# Altium schematic symbol library Sumo_2016.SCHLIB: 15 symbols
Pins are listed as number, name and electrical type; pins without a type are passive.

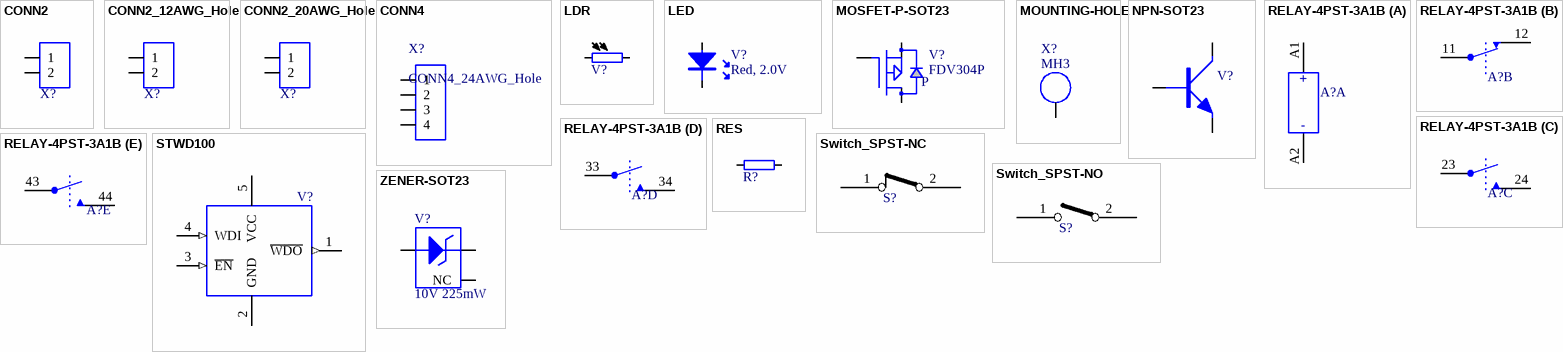
[diagram p0: symbols CONN2 to ZENER-SOT23]

## CONN2
designator X?, comment Molex Minifit  (value not drawn)  (no BOM)
Connector 2 pin general; Part Field 1: CONN2 2x1 4.20mm Minifit Jr Pin Header Vert RoHS; IPN: 5888; Symbol: CONN2; EndOfLife: Active EOL:Sep 2023; Characteristics: Ur=600Vac Imax=13.0A  -40..105ºC Tin UL File: E29179; Lead_Process_Compatible: Yes; SubmittedBy: ZCLH; DeviceRank: 2; Part Field 2: Molex 39-28-1023; ComponentLink1Description: 039281023_sd.pdf; ComponentLink2Description: 0039281023_rohs.pdf; ComponentLink1URL: http://ecad.vsl.com.au/apps/BomGen/Data/rel/datasheets/new_parts/039281023_sd.pdf; ComponentLink2URL: http://ecad.vsl.com.au/apps/BomGen/Data/rel/rohs_compliance/new_certificates/0039281023_rohs.pdf; Altium_Comment_Old: CONN2 2x1 4.20mm Minifit Jr Pin Header Vert RoHS; Altium_Comment: Molex Minifit; Manufacturer: Molex; PartNumber: 39-28-1023; LastChanged: 27/09/12 10:20:42; Supplier1: Element14; Supplier1_PartNumber: 9732080; Supplier2: RS; Supplier2_PartNumber: 484-1883; IPN_Search: 5888; OrderNumber: 39-28-1023; PartType: PCB; Price: 0.57; CheckedBy: FXT; Price_100: M$0.356; Price_1000: M$0.320; Price_5000: M$0.250
footprint HDR-4.2-1x2-MINIFIT
pins: 1, 2

## CONN2_12AWG_Hole
designator X?  (value not drawn)  (no BOM)
Symbol: CONN2; Lead_Process_Compatible: Yes; SubmittedBy: ZMZE; DeviceRank: 2; IPN: -; Part Field 1: CONN2_12AWG_Hole; Part Field 2: -; Altium_Comment_Old: CONN2_12AWG_Hole; Altium_Comment: CONN2_12AWG_Hole; Manufacturer: -; PartNumber: -; LastChanged: 27/09/12 10:20:42; Supplier1: -; Supplier1_PartNumber: -; Supplier2: -; Supplier2_PartNumber: -; IPN_Search: -; Characteristics: -; OrderNumber: -; PartType: PCB; Price: -; CheckedBy: -; Price_100: -; Price_1000: -; Price_5000: -
footprint 2_Wire_12AWG
pins: 1, 2

## CONN2_20AWG_Hole
designator X?  (value not drawn)  (no BOM)
Symbol: CONN2; Lead_Process_Compatible: Yes; SubmittedBy: ZMZE; DeviceRank: 2; IPN: -; Part Field 1: CONN2_20AWG_Hole; Part Field 2: -; Altium_Comment_Old: CONN2_20AWG_Hole; Altium_Comment: CONN2_20AWG_Hole; Manufacturer: -; PartNumber: -; LastChanged: 27/09/12 10:20:42; Supplier1: -; Supplier1_PartNumber: -; Supplier2: -; Supplier2_PartNumber: -; IPN_Search: -; Characteristics: -; OrderNumber: -; PartType: PCB; Price: -; CheckedBy: -; Price_100: -; Price_1000: -; Price_5000: -
footprint 2_Wire_20AWG
pins: 1, 2

## CONN4
designator X?, comment CONN4_24AWG_Hole
Altium_Comment: CONN4_24AWG_Hole
footprint 4_Wire_0.1"
pins: 1, 2, 3, 4

## LDR
designator V?, comment LDR 14k@24LUX, 670k@dark  (value not drawn)
LDR; Part Field 1: LDR Photocell, 14k@24LUX, 670k@dark; Manufacturer: Luna Optoelectronics; IPN: 9828; Characteristics: 550nm, 100vPk, -65...+75C, 50mW max,; Lead_Process_Compatible: Yes; SubmittedBy: zmze; DeviceRank: 2; Part Field 2: Luna Optoelectronics NSL-5112; ComponentLink1Description: Luna Optoelectronics_NSL-5112_NSL-5112.pdf; ComponentLink2Description: Non_compliant; ComponentLink1URL: http://ecad.vsl.com.au/apps/BomGen/Data/rel/datasheets/Luna Optoelectronics/Luna Optoelectronics_NSL-5112_NSL-5112.pdf; Altium_Comment_Old: LDR Photocell, 14k@24LUX, 670k@dark; Altium_Comment: LDR 14k@24LUX, 670k@dark; Symbol: LDR; PartNumber: NSL-5112; LastChanged: 27/05/16 08:14:08; Supplier1: Digikey; Supplier1_PartNumber: NSL-5112-ND; IPN_Search: 9828; OrderNumber: NSL-5112; PartType: PCB
footprint LDR_NSL-5112
pins: 1, 2

## LED
designator V?, comment Red, 2.0V
LED; Part Field 1: LED Red 12mcd@20mA 0805 RoHS; Manufacturer: Kingbright; PartNumber: KP-2012EC; IPN: 2785; EndOfLife: Active EOL:Jun 2020; Characteristics: Wpk=627nm Vftyp=2V Vfmax=2.5V Ifmax=30mA -40..+85 View angle=120deg; Lead_Process_Compatible: Yes; SubmittedBy: LGG; DeviceRank: 2; Part Field 2: Kingbright KP-2012EC; ComponentLink1Description: Kingbright_KP-2012EC_DS.pdf; ComponentLink2Description: Kingbright_KPseries_RCS.pdf; ComponentLink1URL: http://ecad.vsl.com.au/apps/BomGen/Data/rel/datasheets/new_parts/Kingbright_KP-2012EC_DS.pdf; ComponentLink2URL: http://ecad.vsl.com.au/apps/BomGen/Data/rel/rohs_compliance/new_certificates/Kingbright_KPseries_RCS.pdf; Altium_Comment_Old: LED Red 12mcd@20mA 0805 RoHS; Altium_Comment: LED Red 12mcd@20mA 0805 RoHS; Symbol: LED; LastChanged: 27/06/08 15:06:33; Supplier1: Tenrod; Supplier1_PartNumber: KP-2012EC; Supplier2: Farnell; Supplier2_PartNumber: 8529949; IPN_Search: 2785; OrderNumber: KP-2012EC; PartType: PCB; Price: 0.08; CheckedBy: ART
footprint LED-0805
pins: a, k

## MOSFET-P-SOT23
designator V?, comment FDV304P
MOSFET P CHANNEL GENERIC SOT23; Part Field 1: MOSFET P-CH FDV304P SOT23; Manufacturer: Fairchild; IPN: 5221; Symbol: MOSFET-P-SOT23; EndOfLife: Active EOL:Jul 2022; Characteristics: 25V 0.46A 1.5R Vgs=1.5V 150deg; Lead_Process_Compatible: Yes; SubmittedBy: KZB; DeviceRank: 2; Part Field 2: Fairchild FDV304P; ComponentLink1Description: Fairchild_FDV304P_DS.pdf; ComponentLink2Description: Fairchild_Generic_RCS.pdf; ComponentLink1URL: http://ecad.vsl.com.au/apps/BomGen/Data/rel/datasheets/new_parts/Fairchild_FDV304P_DS.pdf; ComponentLink2URL: http://ecad.vsl.com.au/apps/BomGen/Data/rel/rohs_compliance/new_certificates/Fairchild_Generic_RCS.pdf; Altium_Comment_Old: MOSFET P-CH FDV304P SOT23; Altium_Comment: FDV304P; PartNumber: FDV304P; LastChanged: 10/06/10 13:58:43; Supplier1: Digikey; Supplier1_PartNumber: FDV304PCT-ND; Supplier2: Farnell; Supplier2_PartNumber: 9846123; IPN_Search: 5221; OrderNumber: FDV304P; PartType: PCB; Price: 0.697; CheckedBy: AJR; Price_100: M$0.102; Price_1000: M$0.070; Price_5000: M$0.053
footprint SOT23
pins: x d, y s, z gate
text: P

## MOUNTING-HOLE
designator X?, comment MH3  (no BOM)
MOUNTING HOLE; Part Field 1: MH3 Loose Unplated with Vias; IPN: 7545; Symbol: MOUNTING-HOLE; Lead_Process_Compatible: Yes; SubmittedBy: zad; DeviceRank: 2; Part Field 2: - -; ComponentLink1Description: -; ComponentLink2Description: Compliant; ComponentLink1URL: -; ComponentLink2URL: -; Altium_Comment_Old: MH3 Loose Unplated with Vias; Altium_Comment: MH3; Manufacturer: -; PartNumber: -; LastChanged: 24/06/14 18:13:23; IPN_Search: 7545; OrderNumber: -; PartType: PCB; CheckedBy: vhq
footprint MH-M3-SEMS-6.7-3.6-Vias-Unplated
pins: 1

## NPN-SOT23
designator V?, comment BC846B  (value not drawn)
NPN Transistor SOT23; Part Field 1: BJT NPN BC846 SOT23 RoHS; Manufacturer: NXP; IPN: 3412; Symbol: NPN-SOT23; EndOfLife: Active EOL:Nov 2023; Characteristics: Ic=100mA Vceo=65V Pt=250mW Tj=150degC Hfe=200..450; OrderNumber: 9335 895 60215; Lead_Process_Compatible: Yes; SubmittedBy: ART; DeviceRank: 1; Part Field 2: NXP BC846B; ComponentLink1Description: NXP_BC84xseries_DS.pdf; ComponentLink2Description: NXP_BC846B_MD.xls; ComponentLink1URL: http://ecad.vsl.com.au/apps/BomGen/Data/rel/datasheets/new_parts/NXP_BC84xseries_DS.pdf; ComponentLink2URL: Not Found; Altium_Comment_Old: BJT NPN BC846 SOT23 RoHS; Altium_Comment: BC846B; PartNumber: BC846B; LastChanged: 24/08/09 11:56:43; Supplier1: Mouser; Supplier1_PartNumber: 771-BC846B-T/R; Supplier2: Digikey; Supplier2_PartNumber: 568-1632-1-ND; IPN_Search: 3412; PartType: PCB; CheckedBy: LZZ; Price_100: M$0.040; Price_1000: M$0.027; Price_5000: M$0.020
footprint SOT23
pins: x Collector, y Emitter, z Base

## RELAY-4PST-3A1B
designator A?, comment RELAY SAFETY 4PST 8A 18V  (value not drawn)
Safety Relay 4PST, 3NO 1 NC; Manufacturer: TE Connectivity Potter & Brumfield Relays; PartNumber: SR4M4018; IPN: 9827; Symbol: RELAY-4PST-3A1B; Characteristics: 18VDC 405ohm  1250VAC/8A-Switching-load; Lead_Process_Compatible: Yes; SubmittedBy: zmze; DeviceRank: 2; Part Field 1: RELAY SAFETY 4PST 8A 18V; Part Field 2: TE Connectivity Potter & Brumfield Relays SR4M4018; ComponentLink2Description: Compliant; Altium_Comment_Old: RELAY SAFETY 4PST 8A 18V; Altium_Comment: RELAY SAFETY 4PST 8A 18V; LastChanged: 27/05/16 08:10:39; Supplier1: Digikey; Supplier1_PartNumber: PB1304-ND; IPN_Search: 9827; OrderNumber: SR4M4018; PartType: PCB; ComponentLink1Description: TE Connectivity Potter & Brumfield Relays_SR4M4018_ENG_DS_SR4_DXM_0415.pdf; ComponentLink1URL: http://ecad.vsl.com.au/apps/BomGen/Data/rel/datasheets/TE Connectivity Potter & Brumfield Relays/TE Connectivity Potter & Brumfield Relays_SR4M4018_ENG_DS_SR4_DXM_0415.pdf
footprint RELAY-BRUMFIELD-4PST-3NO-1NC
part A pins: A1, A2
part B pins: 11, 12
part C pins: 23, 24
part D pins: 33, 34
part E pins: 43, 44
part A text: +; -

## RES
designator R?, comment 10K  (value not drawn)
Resistor; Part Field 1: RES 10K 1% 250mW 1206 RoHS; Manufacturer: Phycomp; PartNumber: RC1206FR-0710KL; IPN: 3867; Symbol: RES; EndOfLife: Active EOL:Jan 2031; Characteristics: 100ppm/C -55..+155C U=150Vrms Reel=5000pcs; OrderNumber: 232272461003L; Lead_Process_Compatible: Yes; SubmittedBy: ART; DeviceRank: 2; Part Field 2: Phycomp RC1206FR-0710KL; ComponentLink1Description: Phycomp_RC1206series_DS.pdf; ComponentLink2Description: Phycomp_Generic_RCS.pdf; ComponentLink1URL: http://ecad.vsl.com.au/apps/BomGen/Data/rel/datasheets/new_parts/Phycomp_RC1206series_DS.pdf; ComponentLink2URL: http://ecad.vsl.com.au/apps/BomGen/Data/rel/rohs_compliance/new_certificates/Phycomp_Generic_RCS.pdf; Altium_Comment_Old: RES 10K 1% 250mW 1206 RoHS; Altium_Comment: 10K; Supplier1: Arrow; Supplier1_PartNumber: RC1206FR-0710KL; Supplier2: Xon; IPN_Search: 3867; PartType: PCB; CheckedBy: ART; Price_5000: M$0.004
footprint 1206
pins: 1, 2

## STWD100
designator V?, comment STWD100NYWY3F  (value not drawn)
IC Watchdog Timer Circuit; Part Field 1: Microprocessor Watchdog Timer STWD100NY; Manufacturer: ST Microelectronics; IPN: 5674; EndOfLife: Active EOL:Dec 2024; Characteristics: Open Drain Output 210ms; Lead_Process_Compatible: Yes; SubmittedBy: GRH; DeviceRank: 2; Part Field 2: ST Microelectronics STWD100NYWY3F; ComponentLink1Description: STWD100.pdf; ComponentLink2Description: ROHSSTWD100NYWY3F.pdf; ComponentLink1URL: http://ecad.vsl.com.au/apps/BomGen/Data/rel/datasheets/new_parts/STWD100.pdf; ComponentLink2URL: http://ecad.vsl.com.au/apps/BomGen/Data/rel/rohs_compliance/new_certificates/ROHSSTWD100NYWY3F.pdf; Altium_Comment_Old: Microprocessor Watchdog Timer STWD100NY; Altium_Comment: STWD100NYWY3F; Symbol: STWD100; PartNumber: STWD100NYWY3F; LastChanged: 20/04/11 08:20:11; Supplier1: Digikey; Supplier1_PartNumber: 497-10058-1-ND; IPN_Search: 5674; PartType: PCB; Price: 1.40 (USD); CheckedBy: SAA; Price_100: M$0.611; Price_1000: M$0.426; Price_5000: M$0.378
footprint SOT23-5
pins: 1 ~{WDO} (out), 2 GND (power), 3 ~{EN} (in), 4 WDI (in), 5 VCC (power)

## Switch_SPST-NC
designator S?, comment Switch NC  (value not drawn)
SWITCH; Part Field 1: Switch, Panel Mount, Momentary, SPST-NC, 0.5A 125V, RoHS; Manufacturer: TE Connectivity; PartNumber: MSPS103B; IPN: 9813; Symbol: Switch_SPST-NC; Characteristics: 0.5A 125V; Lead_Process_Compatible: Yes; SubmittedBy: presi; DeviceRank: 2; Part Field 2: TE Connectivity MSPS103B; ComponentLink1Description: -; ComponentLink2Description: Compliant; ComponentLink1URL: -; ComponentLink2URL: -; Altium_Comment_Old: Switch, Panel Mount, Momentary, SPST-NC, 0.5A 125V, RoHS; Altium_Comment: Switch NC; LastChanged: 13-06-16 20:48:49; Supplier1: Digi-Key; Supplier1_PartNumber: 450-1099-ND; IPN_Search: 9813; OrderNumber: MSPS103B; PartType: PCB
footprint 2_Wire_20AWG
pins: 1, 2

## Switch_SPST-NO
designator S?, comment Switch NO  (value not drawn)
SWITCH; Part Field 1: Switch, Panel Mount, Momentary, SPST-NO, 0.5A 125V, RoHS; Manufacturer: TE Connectivity; PartNumber: 1437568-6; IPN: 9814; Symbol: Switch_SPST-NO; Characteristics: 0.5A 125V; Lead_Process_Compatible: Yes; SubmittedBy: presi; DeviceRank: 2; Part Field 2: TE Connectivity 1437568-6; ComponentLink1Description: -; ComponentLink2Description: Compliant; ComponentLink1URL: -; ComponentLink2URL: -; Altium_Comment_Old: Switch, Panel Mount, Momentary, SPST-NO, 0.5A 125V, RoHS; Altium_Comment: Switch NO; LastChanged: 13-06-16 21:00:15; Supplier1: Digi-Key; Supplier1_PartNumber: 450-1110-ND; IPN_Search: 9814; OrderNumber: 1437568-6; PartType: PCB
footprint 2_Wire_20AWG
pins: 1, 2

## ZENER-SOT23
designator V?, comment 10V 225mW
DIODE ZENER SOT23 a-z k-x nc-y; Part Field 1: DIODE ZENER 10V 5% 225mW SOT23 RoHS; Manufacturer: ON Semi; PartNumber: BZX84C10LT1G; IPN: 6327; Symbol: ZENER-SOT23; Characteristics: Vf=900mV Zzt=20R -65..+150C Reel=3000; Lead_Process_Compatible: Yes; SubmittedBy: VQD; DeviceRank: 2; Part Field 2: ON Semi BZX84C10LT1G; ComponentLink1Description: ON Semi_BZX84C10LT1G_BZX84 Series.pdf; ComponentLink2Description: ON Semi_BZX84C10LT1G_BZX84C10LT1G RoHS Cert.pdf; ComponentLink1URL: http://ecad.vsl.com.au/apps/BomGen/Data/rel/datasheets/ON Semi/ON Semi_BZX84C10LT1G_BZX84 Series.pdf; ComponentLink2URL: http://ecad.vsl.com.au/apps/BomGen/Data/rel/rohs_compliance/new_certificates/ON Semi_BZX84C10LT1G_BZX84C10LT1G RoHS Cert.pdf; Altium_Comment_Old: DIODE ZENER 10V 5% 225mW SOT23 RoHS; Altium_Comment: 10V 225mW; LastChanged: 07/07/14 15:36:02; Supplier1: Digikey; Supplier1_PartNumber: BZX84C10LT1GOSTR-ND; IPN_Search: 6327; OrderNumber: BZX84C10LT1G; PartType: PCB; Price: 0.08990
footprint SOT23
pins: x k, y NC, z a